# EAGLE library part ESP8266 (library tigorcustom)
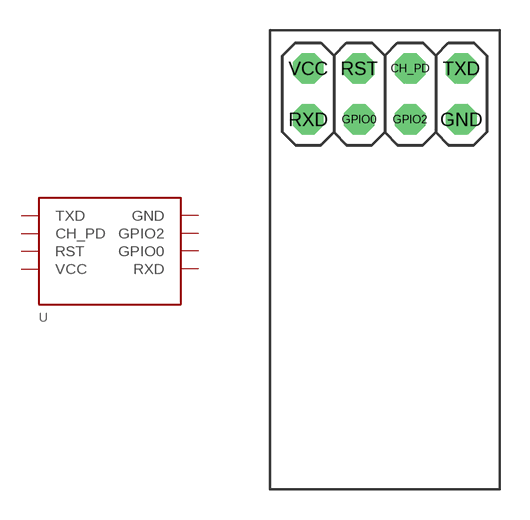
[diagram p1: symbol with the pads of ESP8266; footprint ESP8266]

Designator prefix -

## ESP8266  [ESP8266]
CH_PD  CH_PD
GND  GND
GPIO0  GPIO0
GPIO2  GPIO2
RST  RST
RXD  RXD
TXD  TXD
VCC  VCC

## Footprint ESP8266 (pad centres in mm)
PIN HEADER
drill 1.016 octagon: CH_PD 1.27,1.27; GND 3.81,-1.27; GPIO0 -1.27,-1.27; GPIO2 1.27,-1.27; RST -1.27,1.27; RXD -3.81,-1.27; TXD 3.81,1.27; VCC -3.81,1.27